# EAGLE library part STM_SWD (library FaBo-PIN)
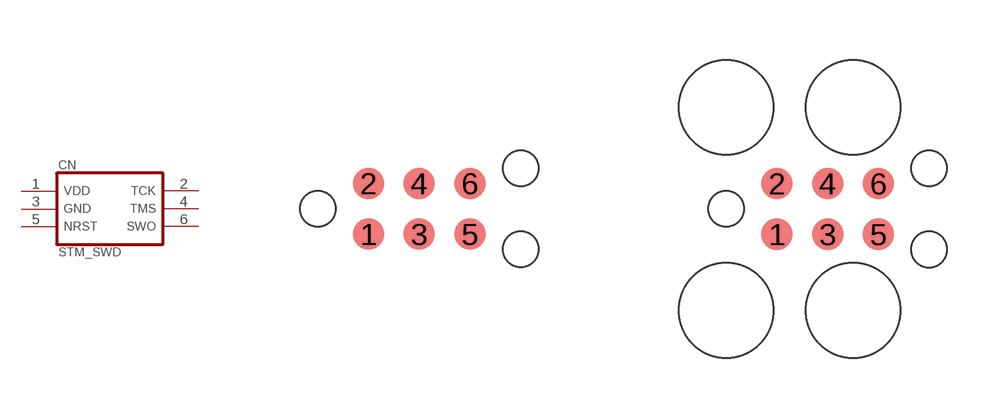
[diagram p11: symbol with the pads of TC2030; footprints TC2030, TC2030-MCP]

Designator prefix CN

## STM_SWD-TC2030_NOHOLE  [TC2030]
1  1  pas
2  2  pas
3  3  pas
4  4  pas
5  5  pas
6  6  pas

## STM_SWD-TC2030  [TC2030-MCP]
Pads as for TC2030

## Footprint TC2030 (pad centres in mm)
smd 0.787 x 0.787: 1 -1.27,-0.635; 2 -1.27,0.635; 3 0,-0.635; 4 0,0.635; 5 1.27,-0.635; 6 1.27,0.635
hole 0.889 at -2.54,0
hole 0.889 at 2.54,-1.016
hole 0.889 at 2.54,1.016

## Footprint TC2030-MCP (pad centres in mm)
smd 0.787 x 0.787: 1 -1.27,-0.635; 2 -1.27,0.635; 3 0,-0.635; 4 0,0.635; 5 1.27,-0.635; 6 1.27,0.635
hole 0.889 at -2.54,0
hole 0.889 at 2.54,-1.016
hole 0.889 at 2.54,1.016
hole 2.375 at -2.54,2.54
hole 2.375 at -2.54,-2.54
hole 2.375 at 0.635,-2.54
hole 2.375 at 0.635,2.54